# Altium schematic symbol library ToponLib.SchLib: 39 symbols
Pins are listed as number, name and electrical type; pins without a type are passive.

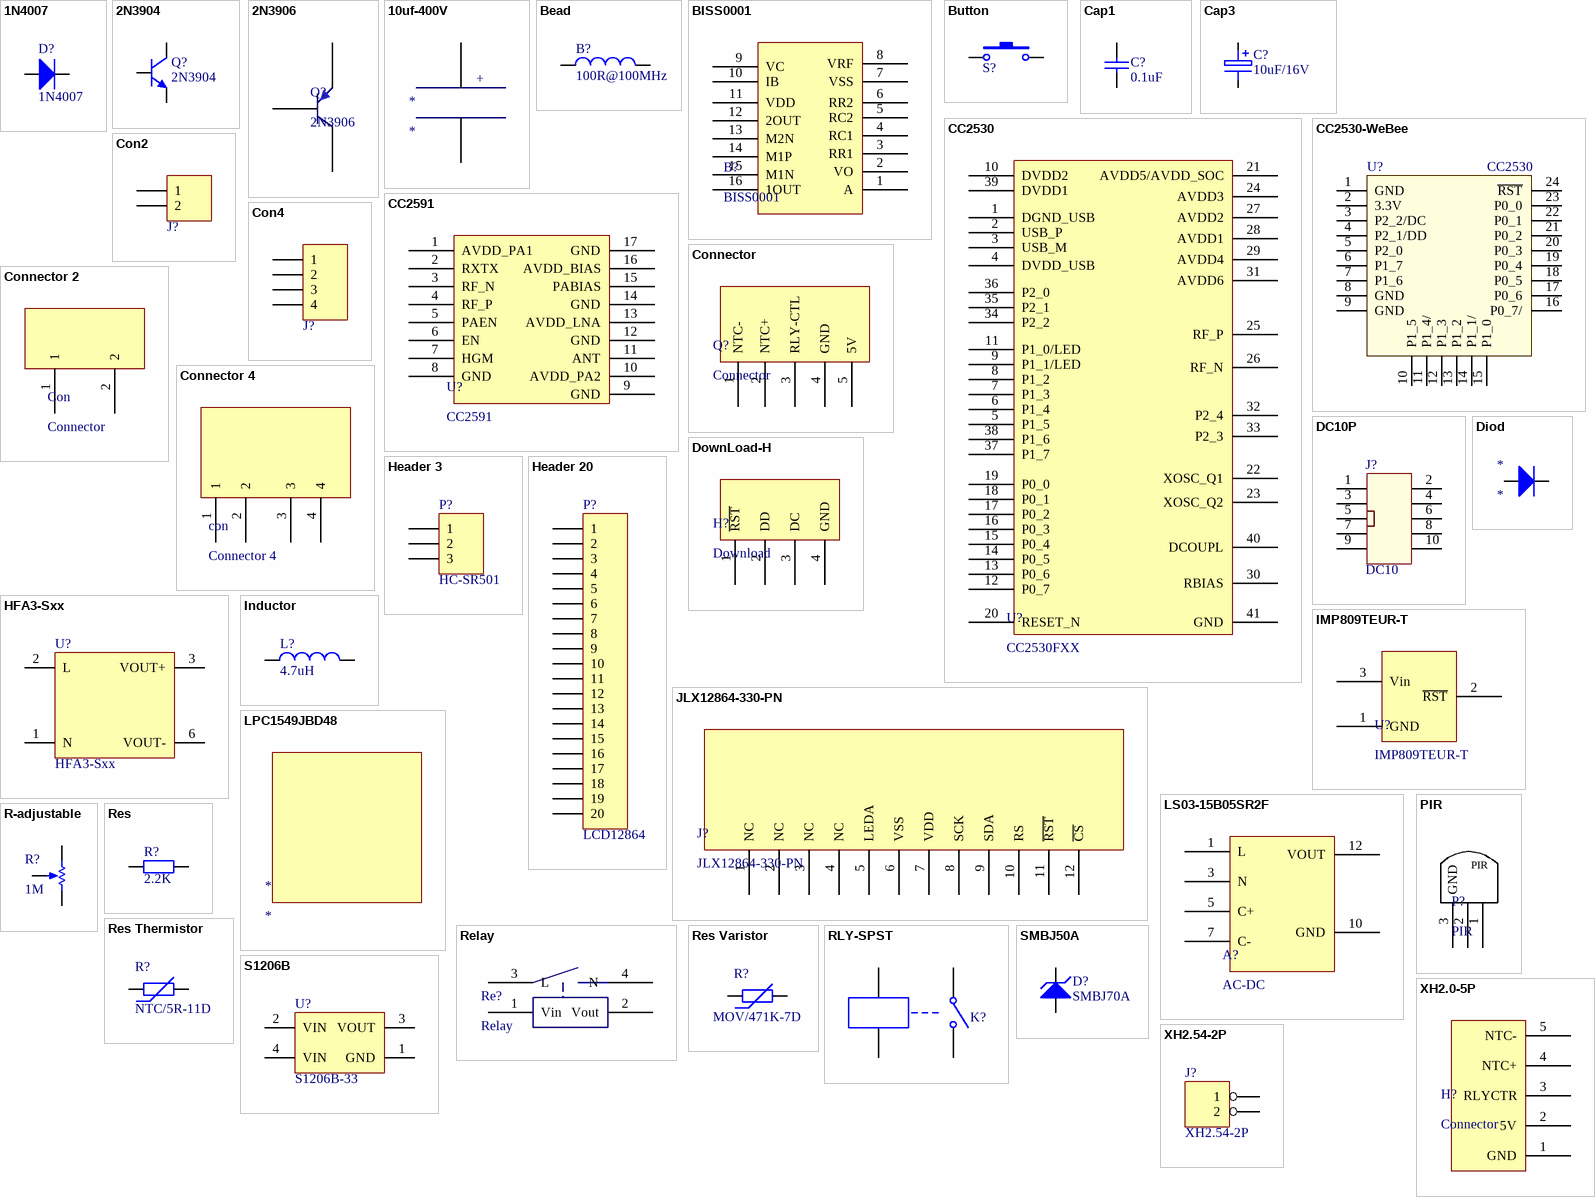
[diagram p0: symbols 1N4007 to XH2.54-2P]

## 1N4007
designator D?
footprint DO214-AC
footprint DO41
footprint DO-P
pins: 1 A, 2 K

## 2N3904
designator Q?
footprint SOT23-3
footprint TO92
pins: 1 B, 2 E, 3 C

## 2N3906
designator Q?
footprint SOT23-3
pins: 1 B, 2 E, 3 C

## 10uf-400V
designator *
pins: 3, 4
text: +

## Bead
designator B?, comment 100R@100MHz
footprint 0603
pins: 1, 2

## BISS0001
designator B?
footprint SOP16
pins: 1 A, 2 VO, 3 RR1, 4 RC1, 5 RC2, 6 RR2, 7 VSS, 8 VRF, 9 VC, 10 IB, 11 VDD, 12 2OUT, 13 M2N, 14 M1P, 15 M1N, 16 1OUT

## Button
designator S?  (value not drawn)
footprint BUtton-T4 (4*4*1.5)
pins: 1, 2

## Cap1
designator C?, comment 0.1uF
ceramic
footprint 0603
pins: 1, 2

## Cap3
designator C?, comment 10uF/16V
aluminum
footprint 1206
pins: 1, 2

## CC2530
designator U?, comment CC2530FXX
pins: 1 DGND_USB, 2 USB_P, 3 USB_M, 4 DVDD_USB, 5 P1_5, 6 P1_4, 7 P1_3, 8 P1_2, 9 P1_1/LED, 10 DVDD2, 11 P1_0/LED, 12 P0_7, 13 P0_6, 14 P0_5, 15 P0_4, 16 P0_3, 17 P0_2, 18 P0_1, 19 P0_0, 20 RESET_N, 21 AVDD5/AVDD_SOC, 22 XOSC_Q1, 23 XOSC_Q2, 24 AVDD3, 25 RF_P, 26 RF_N, 27 AVDD2, 28 AVDD1, 29 AVDD4, 30 RBIAS, 31 AVDD6, 32 P2_4, 33 P2_3, 34 P2_2, 35 P2_1, 36 P2_0, 37 P1_7, 38 P1_6, 39 DVDD1, 40 DCOUPL, 41 GND

## CC2530-WeBee
designator U?, comment CC2530
footprint CC2530 _CC2591
pins: 1 GND, 2 3.3V, 3 P2_2/DC, 4 P2_1/DD, 5 P2_0, 6 P1_7, 7 P1_6, 8 GND, 9 GND, 10 P1_5, 11 P1_4/, 12 P1_3, 13 P1_2, 14 P1_1/, 15 P1_0, 16 P0_7/, 17 P0_6, 18 P0_5, 19 P0_4, 20 P0_3, 21 P0_2, 22 P0_1, 23 P0_0, 24 ~{RST}

## CC2591
designator U?
pins: 1 AVDD_PA1, 2 RXTX, 3 RF_N, 4 RF_P, 5 PAEN, 6 EN, 7 HGM, 8 GND, 9 GND, 10 AVDD_PA2, 11 ANT, 12 GND, 13 AVDD_LNA, 14 GND, 15 PABIAS, 16 AVDD_BIAS, 17 GND

## Con2
designator J?  (value not drawn)
footprint PWR2-M
footprint CON-DG128-2
pins: 1, 2

## Con4
designator J?  (value not drawn)
footprint PWR4-M
footprint CON-KF635-4
footprint PWR4-L
footprint CON-HB9500-4
pins: 1, 2, 3, 4

## Connector
designator Q?
footprint Connector
pins: 1 NTC-, 2 NTC+, 3 RLY-CTL, 4 GND, 5 5V

## Connector 2
designator Con, comment Connector
footprint Terminal 2
pins: 1, 2

## Connector 4
designator con
footprint Terminal 4
pins: 1, 2, 3, 4

## DC10P
designator J?, comment DC10
footprint DC10-2.54
pins: 1, 2, 3, 4, 5, 6, 7, 8, 9, 10

## Diod
designator *
pins: 1 A, 2 K

## DownLoad-H
designator H?, comment Download
footprint DownLoad-H
pins: 1 ~{RST}, 2 DD, 3 DC, 4 GND

## Header 3
designator P?, comment HC-SR501
Header, 3-Pin; LatestRevisionDate: 17-Jul-2002; LatestRevisionNote: Re-released for DXP Platform.; Publisher: Altium Limited
signal-integrity model Connector
footprint Header3
pins: 1, 2, 3

## Header 20
designator P?, comment LCD12864
Header, 20-Pin; LatestRevisionDate: 17-Jul-2002; LatestRevisionNote: Re-released for DXP Platform.; Publisher: Altium Limited
footprint HDR1X20 (Connector; Header; 20 Position)
signal-integrity model Connector
pins: 1, 2, 3, 4, 5, 6, 7, 8, 9, 10, 11, 12, 13, 14, 15, 16, 17, 18, 19, 20

## HFA3-Sxx
designator U?
footprint HFA3-SXX
pins: 1 N, 2 L, 3 VOUT+, 6 VOUT-

## IMP809TEUR-T
designator U?
footprint SOT23-3
pins: 1 GND, 2 ~{RST}, 3 Vin

## Inductor
designator L?, comment 4.7uH
footprint AXIAL0.3
footprint 33UH-7 (7mm*7mm)
footprint 0805
footprint 33UH-10 (10mm*10mm)
pins: 1, 2

## JLX12864-330-PN
designator J?
footprint JLX112864G-330-PN
pins: 1 NC, 2 NC, 3 NC, 4 NC, 5 LEDA, 6 VSS, 7 VDD, 8 SCK, 9 SDA, 10 RS, 11 ~{RST}, 12 ~{CS}

## LPC1549JBD48
designator *

## LS03-15B05SR2F
designator A?, comment AC-DC
footprint LS03-15B05SR2F
pins: 1 L, 3 N, 5 C+, 7 C-, 10 GND, 12 VOUT

## PIR
designator P?
footprint PIR
pins: 1, 2, 3 GND

## R-adjustable
designator R?, comment 1M
footprint R-dajustable
pins: 1 TOP, 2 BOT, 3 TAP

## Relay
designator Re?
footprint RLY-HF152F (Relay)
pins: 1 Vin, 2 Vout, 3 L, 4 N

## Res
designator R?, comment 2.2K
footprint 0603
pins: 1, 2

## Res Thermistor
designator R?, comment NTC/5R-11D
footprint AXIAL0.3
footprint NTC
pins: 1, 2

## Res Varistor
designator R?, comment MOV/471K-7D
footprint AXIAL0.3
footprint NTC
pins: 1, 2

## RLY-SPST
designator K?  (value not drawn)
footprint RLY-HF152F
footprint RLY-SLA
pins: 1, 2, 3, 4

## S1206B
designator U?, comment S1206B-33
footprint SOT89-4
pins: 1 GND (power), 2 VIN (power), 3 VOUT (power), 4 VIN (power)

## SMBJ50A
designator D?, comment SMBJ70A
unipolar tvs
footprint DO214-AA
pins: 1 A, 2 K

## XH2.0-5P
designator H?, comment Connector
footprint XH2.0-5P
pins: 1 GND, 2 5V, 3 RLYCTR, 4 NTC+, 5 NTC-

## XH2.54-2P
designator J?
footprint XH2.54-2P
pins: 1, 2